# Altium footprint library ARC_ANGLES.PcbLib: 1 footprints
Each footprint in its own frame and in the unit in brackets; x right, y up, seen from the top. Pads: shape width x height; smd on the part's side, far side on the other; paste and mask are expansions set on the pad; w line width, h text height; cw(c..) or ccw(c..) is an arc to the next point about the centre after c.
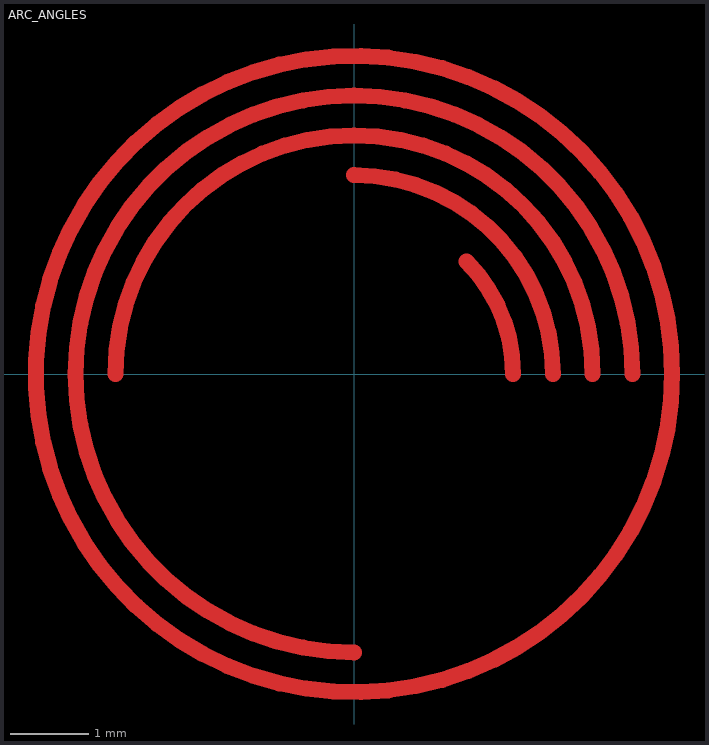
[diagram p0: the footprint, top view; thin cyan lines are the x and y axes]

## ARC_ANGLES [mm] "Arcs with various sweep angles"
Top Layer:
  circle w0.203: c0,0 r4.064
  lines w0.203: -3.048,0 cw(c0,0) 3.048,0 ; 0,-3.556 cw(c0,0) 3.556,0 ; 0,2.54 cw(c0,0) 2.54,0 ; 1.437,1.437 cw(c0,0) 2.032,0